# Altium schematic symbol library IRF7509.Schlib: 1 symbol
Pins are listed as number, name and electrical type; pins without a type are passive.

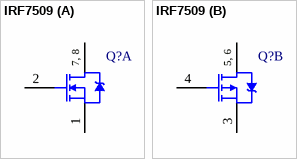
[diagram p0: symbol IRF7509]

## IRF7509
designator Q?
1N/1P channel HEXFET Power MOSFET; Package Information: Latest Revision: Feb-2001; Code - JEDEC: MS-012-AA; Published: 17-Sep-2003; Datasheet: Latest Revision: 26-Jun-2000; Package Reference: SO-8; Publisher: Altium Limited
footprint u_SO-8
part A pins: 1 S, 2 G, 7 D, 8 D
part B pins: 3 S, 4 G, 5 D, 6 D
part A text: 7, 8
part B text: 5, 6